# Altium schematic symbol library LQ68A130V1.SCHLIB: 8 symbols
Pins are listed as number, name and electrical type; pins without a type are passive.

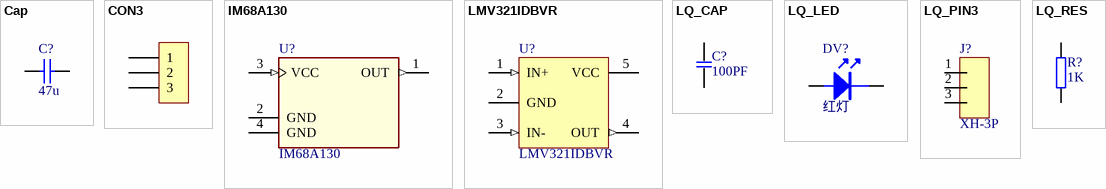
[diagram p0: symbols Cap to LQ_RES]

## Cap
designator C?, comment 47u
Capacitor; Value: 2.2uF; Published: 8-Jun-2000; LatestRevisionDate: 17-Jul-2002; LatestRevisionNote: Re-released for DXP Platform.; PackageReference: RAD-0.3; Publisher: Altium Limited; PackageDescription: Radial Cap, Thru-Hole; 2 Leads; 0.3 in Pin Spacing
footprint RAD-0.3 (Radial Cap, Thru-Hole; 2 Leads; 0.3 in Pin Spacing)
simulation model CAP (Capacitor)
signal-integrity model Cap
footprint 0603
footprint LQ_R0603
footprint LQ_C0603
footprint LQ_0603
footprint LQ_C0402
pins: 1, 2

## CON3
designator J?  (value not drawn)
Connector
footprint LQ_SIP3
pins: 1, 2, 3

## IM68A130
designator U?
High Performance Digital XENSIV MEMS Microphone; ManufacturerPartNumber: IM69D130; Manufacturer: Infineon Technologies; PackageReference: PG-LLGA-5-1
footprint IM68A130 (Footprint not found)
pins: 1 OUT (out) "PDM data output", 2 GND (power) "Power supply", 3 VCC (in) "PDM clock input", 4 GND "PDM left/right select"

## LMV321IDBVR
designator U?
LMV321ID
footprint LQ_SOT-23-5
pins: 1 IN+ (in), 2 GND (power), 3 IN- (in), 4 OUT (out), 5 VCC (power)

## LQ_CAP
designator C?, comment 100PF
CAP
footprint LQ_0805
footprint LQ_0603
footprint LQ_1206
footprint LQ_1210
footprint LQ_C0603
pins: 1, 2

## LQ_LED
designator DV?, comment 红灯
footprint LQ_LED0603R
pins: 1, 2

## LQ_PIN3
designator J?, comment XH-3P
Jumper
footprint LQ_PH2.0-WI-3P (长：7.9mm，宽：6mm，高：4.7mm)
pins: 1, 2, 3

## LQ_RES
designator R?, comment 1K
footprint LQ_R0603
footprint LQ_0805
footprint LQ_1206
footprint LQ_1210
pins: 1, 2